# Altium footprint library CAP(100n, 0603, 10V, CER, X7R).PcbLib: 3 footprints
Each footprint in its own frame and in the unit in brackets; x right, y up, seen from the top. Pads: shape width x height; smd on the part's side, far side on the other; paste and mask are expansions set on the pad; w line width, h text height; cw(c..) or ccw(c..) is an arc to the next point about the centre after c.
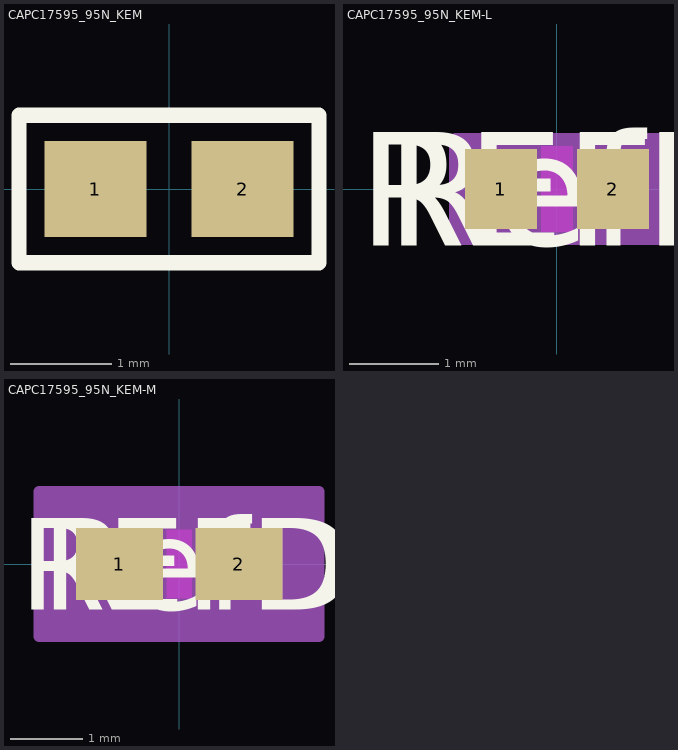
[diagram p0: the footprints below, top view; thin cyan lines are the x and y axes]

## CAPC17595_95N_KEM [mm]
pads (2):
  rect 1.006x0.95 smd paste+0 mask+0: 1(-0.728,0) 2(0.728,0)
Top Overlay:
  lines w0.152: -1.485,-0.729 1.485,-0.729 1.485,0.729 -1.485,0.729 -1.485,-0.729
3D body "CAPC17595_95N_KEM.step": height 0.95, standoff 0, extent -0.875,-0.475 0.875,0.475

## CAPC17595_95N_KEM-L [mm]
pads (2):
  rect 0.802x0.899 smd paste+0 mask+0: 1(-0.626,0) 2(0.626,0)
Top Layer keep-out:
  region: -0.174,-0.424 -0.174,0.424 0.174,0.424 0.174,-0.424
Top Overlay:
  text "RefDes" at -1.905,-0.635 h1.27
  text "REFDES" at -2.222,-0.635 h1.27
Keep-Out Layer:
  region: -0.174,-0.475 -0.174,0.475 0.174,0.475 0.174,-0.475
Mechanical 13:
  lines w0.025: -0.875,-0.475 -0.875,0.475 ; -0.875,-0.475 -0.375,-0.475 -0.375,0.475 -0.875,0.475 ; -0.875,-0.475 0.875,-0.475 ; -0.875,-0.475 -0.875,0.475 ; -0.875,0.475 0.875,0.475 ; 0.875,-0.475 0.375,-0.475 0.375,0.475 0.875,0.475 ; 0.875,-0.475 0.875,0.475 ; 0.875,-0.475 0.875,0.475
  text "RefDes2" at -2.222,-0.635 h1.27
Mechanical 15:
  region: 1.129,-0.551 -1.129,-0.551 -1.129,0.551 1.129,0.551
  lines w0.152: -1.129,-0.551 -1.129,0.551 1.129,0.551 1.129,-0.551 -1.129,-0.551
3D body "CAPC17595_95N_KEM.step": height 0.95, standoff 0, extent -0.875,-0.475 0.875,0.475

## CAPC17595_95N_KEM-M [mm]
pads (2):
  rect 1.209x1.001 smd paste+0 mask+0: 1(-0.829,0) 2(0.829,0)
Top Layer keep-out:
  region: -0.174,-0.424 -0.174,0.424 0.174,0.424 0.174,-0.424
Top Overlay:
  text "RefDes" at -1.905,-0.635 h1.27
  text "REFDES" at -2.222,-0.635 h1.27
Keep-Out Layer:
  region: -0.174,-0.475 -0.174,0.475 0.174,0.475 0.174,-0.475
Mechanical 13:
  lines w0.025: -0.875,-0.475 -0.875,0.475 ; -0.875,-0.475 -0.375,-0.475 -0.375,0.475 -0.875,0.475 ; -0.875,-0.475 0.875,-0.475 ; -0.875,-0.475 -0.875,0.475 ; -0.875,0.475 0.875,0.475 ; 0.875,-0.475 0.375,-0.475 0.375,0.475 0.875,0.475 ; 0.875,-0.475 0.875,0.475 ; 0.875,-0.475 0.875,0.475
  text "RefDes2" at -2.222,-0.635 h1.27
Mechanical 15:
  region: 1.942,-1.008 -1.942,-1.008 -1.942,1.008 1.942,1.008
  lines w0.152: -1.942,-1.008 -1.942,1.008 1.942,1.008 1.942,-1.008 -1.942,-1.008
3D body "CAPC17595_95N_KEM.step": height 0.95, standoff 0, extent -0.875,-0.475 0.875,0.475